# EAGLE library part NRF24L01+_MODULE (library mestrado)
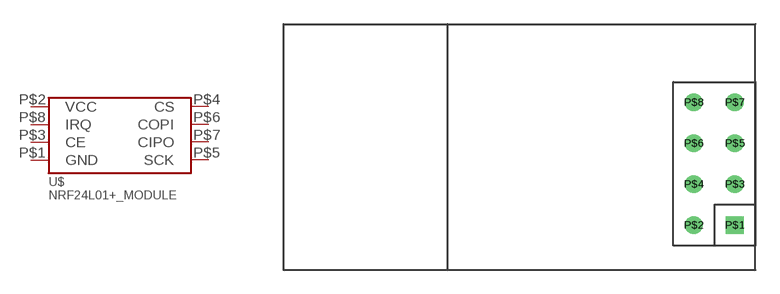
[diagram p17: symbol with the pads of NRF24L04+_MODULE; footprint NRF24L04+_MODULE]

Designator prefix U$

## NRF24L01+_MODULE  [NRF24L04+_MODULE]
P$1  GND  pwr
P$2  VCC  pwr
P$3  CE
P$4  CS
P$5  SCK
P$6  COPI
P$7  CIPO
P$8  IRQ

## Footprint NRF24L04+_MODULE (pad centres in mm)
drill 0.6 square: P$1 11.43,-3.81
drill 0.6: P$2 8.89,-3.81; P$3 11.43,-1.27; P$4 8.89,-1.27; P$5 11.43,1.27; P$6 8.89,1.27; P$7 11.43,3.81; P$8 8.89,3.81